# EAGLE library part ARDUINO (library Ai_Boards)
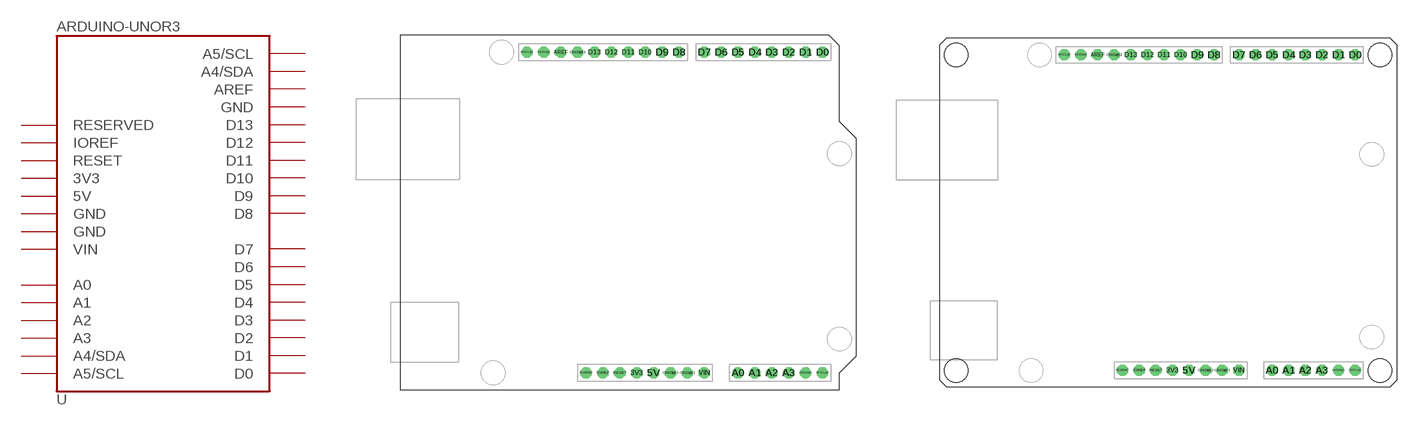
[diagram p0: symbol with the pads of UNOR3; footprints UNOR3, UNOR3-STRAIGHT]

Designator prefix U

## ARDUINOUNOR3  [UNOR3]
3V3  3V3  pwr
5V  5V  pwr
A0  A0
A1  A1
A2  A2
A3  A3
A4/SDA@1  A4/SDA
A4/SDA@2  A4/SDA
A5/SCL@1  A5/SCL
A5/SCL@2  A5/SCL
AREF  AREF
D0  D0
D1  D1
D2  D2
D3  D3
D4  D4
D5  D5
D6  D6
D7  D7
D8  D8
D9  D9
D10  D10
D11  D11
D12  D12
D13  D13
GND@1  GND  pwr
GND@2  GND  pwr
GND@3  GND  pwr
IOREF  IOREF  out
RESERVED  RESERVED  nc
RESET  RESET
VIN  VIN  pwr

## ARDUINOUNOR3-STRAIGHT  [UNOR3-STRAIGHT]
Pads as for UNOR3

## Footprint UNOR3 (pad centres in mm)
drill 1 pad 1.676 octagon: 3V3 35.56,2.54; 5V 38.1,2.54; A0 50.8,2.54; A1 53.34,2.54; A2 55.88,2.54; A3 58.42,2.54; A4/SDA@1 60.96,2.54; A4/SDA@2 21.59,50.8; A5/SCL@1 63.5,2.54; A5/SCL@2 19.05,50.8; AREF 24.13,50.8; D0 63.5,50.8; D1 60.96,50.8; D2 58.42,50.8; D3 55.88,50.8; D4 53.34,50.8; D5 50.8,50.8; D6 48.26,50.8; D7 45.72,50.8; D8 41.91,50.8; D9 39.37,50.8; D10 36.83,50.8; D11 34.29,50.8; D12 31.75,50.8; D13 29.21,50.8; GND@1 43.18,2.54; GND@2 40.64,2.54; GND@3 26.67,50.8; IOREF 30.48,2.54; RESERVED 27.94,2.54; RESET 33.02,2.54; VIN 45.72,2.54

## Footprint UNOR3-STRAIGHT (pad centres in mm)
drill 1 pad 1.676 octagon: 3V3 35.56,2.54; 5V 38.1,2.54; A0 50.8,2.54; A1 53.34,2.54; A2 55.88,2.54; A3 58.42,2.54; A4/SDA@1 60.96,2.54; A4/SDA@2 21.59,50.8; A5/SCL@1 63.5,2.54; A5/SCL@2 19.05,50.8; AREF 24.13,50.8; D0 63.5,50.8; D1 60.96,50.8; D2 58.42,50.8; D3 55.88,50.8; D4 53.34,50.8; D5 50.8,50.8; D6 48.26,50.8; D7 45.72,50.8; D8 41.91,50.8; D9 39.37,50.8; D10 36.83,50.8; D11 34.29,50.8; D12 31.75,50.8; D13 29.21,50.8; GND@1 43.18,2.54; GND@2 40.64,2.54; GND@3 26.67,50.8; IOREF 30.48,2.54; RESERVED 27.94,2.54; RESET 33.02,2.54; VIN 45.72,2.54